# EAGLE library part ACPL-064L-500E (library Eagle_CAD_parts)
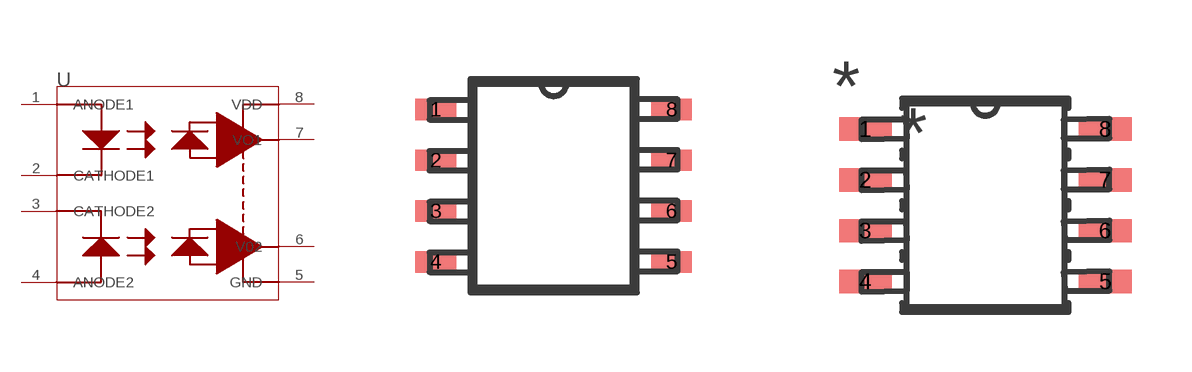
[diagram p20: symbol with the pads of 8-SO; footprints 8-SO, 8-SO-M]

Designator prefix U

## ACPL-064L-500E  [8-SO]
1  ANODE1  pas
2  CATHODE1  pas
3  CATHODE2  pas
4  ANODE2  pas
5  GND  pwr
6  V02  out
7  VO1  out
8  VDD  pwr

## ACPL-064L-500ESO-8-2-M (MANUFACTURER_PART_NUMBER: ACPL064L500E; VENDOR: Avago Technologies)  [8-SO-M]
Pads as for 8-SO

## ACPL-064L-500ESO-8-2-L (MANUFACTURER_PART_NUMBER: ACPL064L500E; VENDOR: Avago Technologies)  [8-SO-L]
Pads as for 8-SO

## Footprint 8-SO (pad centres in mm)
smd 1.016 x 0.533: 1 -2.946,1.905; 2 -2.946,0.635; 3 -2.946,-0.635; 4 -2.946,-1.905; 5 2.946,-1.905; 6 2.946,-0.635; 7 2.946,0.635; 8 2.946,1.905

## Footprint 8-SO-M (pad centres in mm)
smd 1.321 x 0.584: 1 -2.997,1.905; 2 -2.997,0.635; 3 -2.997,-0.635; 4 -2.997,-1.905; 5 2.997,-1.905; 6 2.997,-0.635; 7 2.997,0.635; 8 2.997,1.905

## Footprint 8-SO-L (pad centres in mm)
smd 0.711 x 0.483: 1 -2.896,1.905; 2 -2.896,0.635; 3 -2.896,-0.635; 4 -2.896,-1.905; 5 2.896,-1.905; 6 2.896,-0.635; 7 2.896,0.635; 8 2.896,1.905